# EAGLE library part DAC,AD97X4(14-BIT,125MSPS,PAR) (library QuantumOptics)
AD9754/64, DAC 14-bit, 125MSPS, Analog Devices, pin compaitble with 12-bit to 8-bit versions.
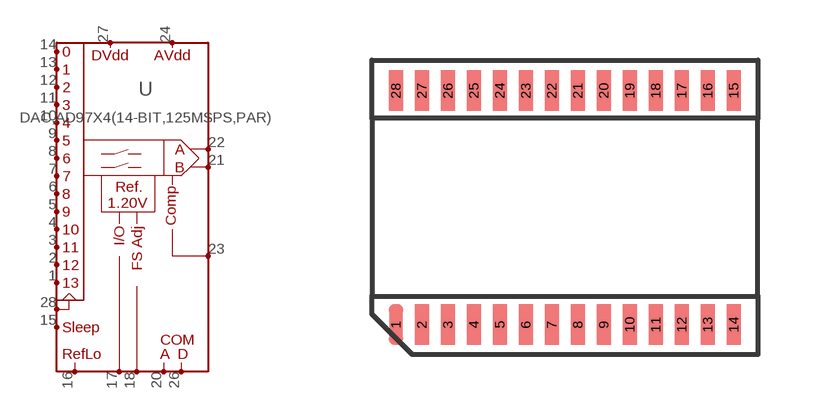
[diagram p225: symbol with the pads of TSSOP-28; footprint TSSOP-28]

Designator prefix U

## DAC,AD97X4(14-BIT,125MSPS,PAR)-TSSOP28  [TSSOP-28]
1  13  in
2  12  in
3  11  in
4  10  in
5  9  in
6  8  in
7  7  in
8  6  in
9  5  in
10  4  in
11  3  in
12  2  in
13  1  in
14  0  in
15  SLEEP  in
16  REFLO  in
17  REF
18  FSADJ
20  ACOM
21  IOUTB  out
22  IOUTA  out
23  COMP
24  AVDD
26  DCOM
27  DVDD
28  CLK  in

## Footprint TSSOP-28 (pad centres in mm)
TSSOP-28, pins 0.65mm c-c spacing, nominal 6.4mm rows.
smd 0.356 x 1.016: 1 0,-5.85; 2 0.65,-5.85; 3 1.3,-5.85; 4 1.95,-5.85; 5 2.6,-5.85; 6 3.25,-5.85; 7 3.9,-5.85; 8 4.55,-5.85; 9 5.2,-5.85; 10 5.85,-5.85; 11 6.5,-5.85; 12 7.15,-5.85; 13 7.8,-5.85; 14 8.45,-5.85; 15 8.45,0; 16 7.8,0; 17 7.15,0; 18 6.5,0; 19 5.85,0; 20 5.2,0; 21 4.55,0; 22 3.9,0; 23 3.25,0; 24 2.6,0; 25 1.95,0; 26 1.3,0; 27 0.65,0; 28 0,0